# Altium footprint library LPON_CAP.PcbLib: 108 footprints (part 3 of 7)
Each footprint in its own frame and in the unit in brackets; x right, y up, seen from the top. Pads: shape width x height; smd on the part's side, far side on the other; paste and mask are expansions set on the pad; w line width, h text height; cw(c..) or ccw(c..) is an arc to the next point about the centre after c.
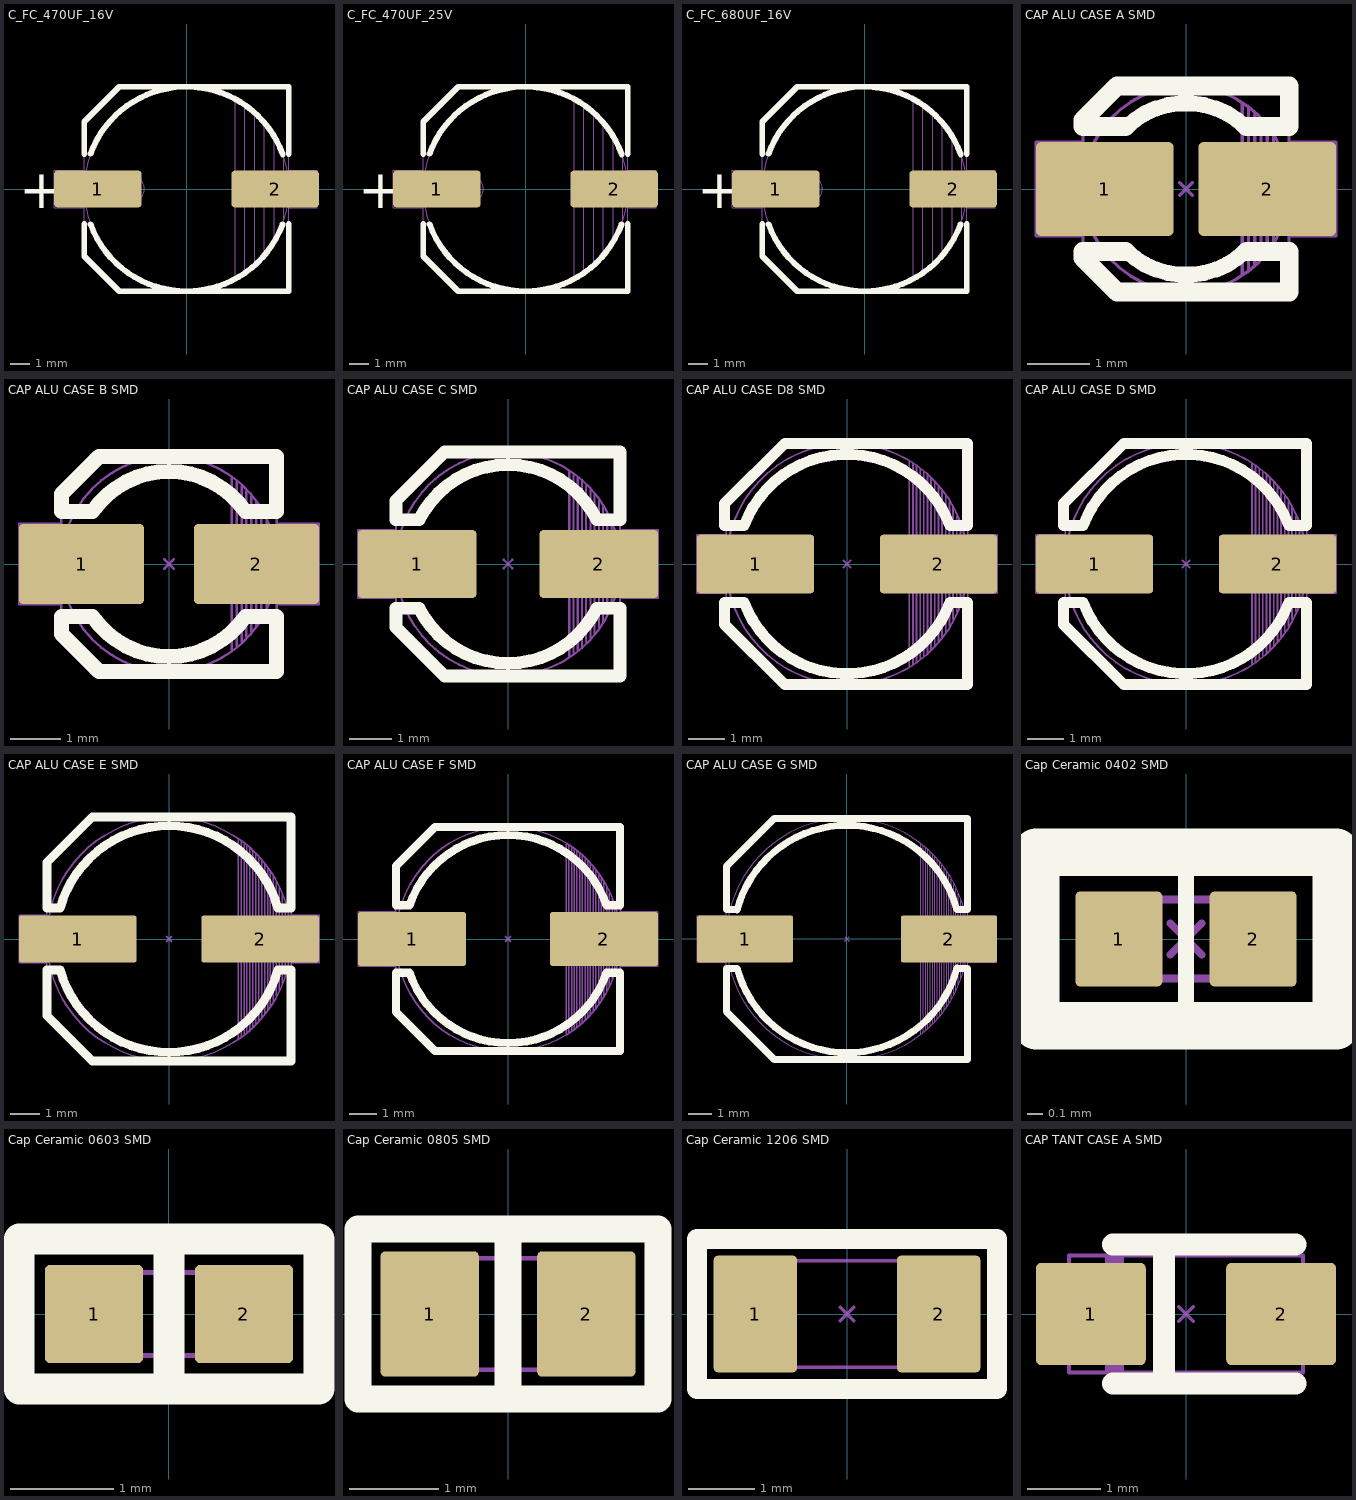
[diagram p2: the footprints below, top view; thin cyan lines are the x and y axes]

## C_FC_470UF_16V [mm] "ALUMINUM CAPACITOR 10.5x10.5x10.5mm"
height 10.5
pads (2):
  rrect20% 4.5x1.9 smd mask+0.1: 1(-4.55,0) 2(4.55,0)
Top Overlay:
  lines w0.3: -5.25,-1.8 -5.25,-3.45 -3.45,-5.25 5.25,-5.25 5.25,-1.8 ; -5.25,1.8 -5.25,3.45 -3.45,5.25 5.25,5.25 5.25,1.8 ; -4.928,-1.81 ccw(c0,0) 4.928,-1.81 ; -4.928,1.81 cw(c0,0) 4.94,1.778
  text "+" at -8.6,-1 h2
Mechanical 1:
  circle w0.05: c-2.84,0 r0.671
  circle w0.05: c0,0 r5.25
  lines w0.05: -5.25,-0.95 -6.8,-0.95 -6.8,0.95 -5.25,0.95 ; 2.5,-4.6 2.5,4.6 ; 3,-4.3 3,4.3 ; 3.5,-3.9 3.5,3.9 ; 4,-3.4 4,3.4 ; 4.5,-2.7 4.5,2.7 ; 5,-1.6 5,1.6 ; 5.25,-0.95 6.7,-0.95 6.7,0.95 5.25,0.95 ; -5.25,-3.45 -3.45,-5.25 5.25,-5.25 5.25,5.25 -3.45,5.25 -5.25,3.45 -5.25,-3.45
  text "+" at -3.5,-1 h2
3D body "User Library-cap_10x10x10-1.STEP": height 10.5, standoff 0, extent -5.901,-5.25 5.899,5.25

## C_FC_470UF_25V [mm] "ALUMINUM CAPACITOR 10.5x10.5x10.5mm"
height 10.5
pads (2):
  rrect20% 4.5x1.9 smd mask+0.1: 1(-4.55,0) 2(4.55,0)
Top Overlay:
  lines w0.3: -5.25,-1.8 -5.25,-3.45 -3.45,-5.25 5.25,-5.25 5.25,-1.8 ; -5.25,1.8 -5.25,3.45 -3.45,5.25 5.25,5.25 5.25,1.8 ; -4.928,-1.81 ccw(c0,0) 4.928,-1.81 ; -4.928,1.81 cw(c0,0) 4.94,1.778
  text "+" at -8.6,-1 h2
Mechanical 1:
  circle w0.05: c-2.84,0 r0.671
  circle w0.05: c0,0 r5.25
  lines w0.05: -5.25,-0.95 -6.8,-0.95 -6.8,0.95 -5.25,0.95 ; 2.5,-4.6 2.5,4.6 ; 3,-4.3 3,4.3 ; 3.5,-3.9 3.5,3.9 ; 4,-3.4 4,3.4 ; 4.5,-2.7 4.5,2.7 ; 5,-1.6 5,1.6 ; 5.25,-0.95 6.7,-0.95 6.7,0.95 5.25,0.95 ; -5.25,-3.45 -3.45,-5.25 5.25,-5.25 5.25,5.25 -3.45,5.25 -5.25,3.45 -5.25,-3.45
  text "+" at -3.5,-1 h2
3D body "User Library-cap_10x10x10-1.STEP": height 10.5, standoff 0, extent -5.901,-5.25 5.899,5.25

## C_FC_680UF_16V [mm] "ALUMINUM CAPACITOR 10.5x10.5x10.5mm"
height 10.5
pads (2):
  rrect20% 4.5x1.9 smd mask+0.1: 1(-4.55,0) 2(4.55,0)
Top Overlay:
  lines w0.3: -5.25,-1.8 -5.25,-3.45 -3.45,-5.25 5.25,-5.25 5.25,-1.8 ; -5.25,1.8 -5.25,3.45 -3.45,5.25 5.25,5.25 5.25,1.8 ; -4.928,-1.81 ccw(c0,0) 4.928,-1.81 ; -4.928,1.81 cw(c0,0) 4.94,1.778
  text "+" at -8.6,-1 h2
Mechanical 1:
  circle w0.05: c-2.84,0 r0.671
  circle w0.05: c0,0 r5.25
  lines w0.05: -5.25,-0.95 -6.8,-0.95 -6.8,0.95 -5.25,0.95 ; 2.5,-4.6 2.5,4.6 ; 3,-4.3 3,4.3 ; 3.5,-3.9 3.5,3.9 ; 4,-3.4 4,3.4 ; 4.5,-2.7 4.5,2.7 ; 5,-1.6 5,1.6 ; 5.25,-0.95 6.7,-0.95 6.7,0.95 5.25,0.95 ; -5.25,-3.45 -3.45,-5.25 5.25,-5.25 5.25,5.25 -3.45,5.25 -5.25,3.45 -5.25,-3.45
  text "+" at -3.5,-1 h2
3D body "User Library-cap_10x10x10-1.STEP": height 10.5, standoff 0, extent -5.901,-5.25 5.899,5.25

## CAP ALU CASE A SMD [mm]
pads (2):
  rrect10% 2.2x1.5 smd mask+0.1: 1(-1.3,0) 2(1.3,0)
Top Overlay:
  lines w0.254: -0.966,-0.977 ccw(c0,0) 0.967,-0.977 ; -0.967,0.977 cw(c0,0) 0.966,0.977
  lines w0.3: -0.966,-1 -1.65,-1 -1.65,-1.1 -1.1,-1.65 1.65,-1.65 1.65,-1 0.967,-1 ; -0.966,1 -1.65,1 -1.65,1.1 -1.1,1.65 1.65,1.65 1.65,1 0.967,1
Mechanical 2:
  circle w0.05: c0,0 r1.65
  lines w0.05: -1.65,-0.75 -2.4,-0.75 -2.4,0.75 -1.65,0.75 ; -0.1,-0.1 0.1,0.1 ; -0.1,0.1 0.1,-0.1 ; 0.9,-1.35 0.9,1.35 ; 1,-1.3 1,1.3 ; 1.1,-1.2 1.1,1.2 ; 1.2,-1.1 1.2,1.1 ; 1.3,-1 1.3,1 ; 1.4,-0.85 1.4,0.85 ; 1.5,-0.65 1.5,0.65 ; 1.65,-0.75 2.4,-0.75 2.4,0.75 1.65,0.75 ; -1.65,-1.11 -1.11,-1.65 1.65,-1.65 1.65,1.65 -1.09,1.65 -1.65,1.09 -1.65,-1.11
3D body "User Library-ALU-A.STEP": height 5.4, standoff 0, extent -1.8,-1.65 1.8,1.65

## CAP ALU CASE B SMD [mm]
pads (2):
  rrect10% 2.5x1.6 smd mask+0.1: 1(-1.75,0) 2(1.75,0)
Top Overlay:
  lines w0.3: -1.525,-1.052 ccw(c0,0) 1.525,-1.052 ; -1.525,-1.05 -2.15,-1.05 -2.15,-1.4 -1.4,-2.15 2.15,-2.15 2.15,-1.05 1.525,-1.05 ; -1.525,1.05 -2.15,1.05 -2.15,1.4 -1.4,2.15 2.15,2.15 2.15,1.05 1.525,1.05 ; -1.525,1.052 cw(c0,0) 1.525,1.052
Mechanical 2:
  circle w0.05: c0,0 r2.152
  lines w0.05: -2.15,-0.8 -3,-0.8 -3,0.8 -2.15,0.8 ; -0.1,-0.1 0.1,0.1 ; -0.1,0.1 0.1,-0.1 ; 1.25,-1.75 1.25,1.75 ; 1.35,-1.65 1.35,1.65 ; 1.45,-1.55 1.45,1.55 ; 1.55,-1.45 1.55,1.45 ; 1.65,-1.35 1.65,1.35 ; 1.75,-1.25 1.75,1.25 ; 1.85,-1.1 1.85,1.1 ; 1.95,-0.85 1.95,0.9 ; 2.05,-0.6 2.05,0.6 ; 2.15,-0.8 3,-0.8 3,0.8 2.15,0.8 ; -2.15,-1.4 -1.4,-2.15 2.15,-2.15 2.15,2.15 -1.4,2.15 -2.15,1.4 -2.15,-1.4
3D body "User Library-ALU-B.STEP": height 5.4, standoff 0, extent -2.3,-2.15 2.3,2.15

## CAP ALU CASE C SMD [mm]
pads (2):
  rrect10% 2.8x1.6 smd mask+0.1: 1(-2.15,0) 2(2.15,0)
Top Overlay:
  lines w0.3: -2.65,-1.5 -1.5,-2.65 2.65,-2.65 2.65,-1.05 2.103,-1.05 2.102,-1.051 cw(c0,0) -2.102,-1.051 -2.103,-1.05 -2.65,-1.05 -2.65,-1.5 ; -2.65,1.05 -2.103,1.05 -2.102,1.051 cw(c0,0) 2.102,1.051 2.103,1.05 2.65,1.05 2.65,2.65 -1.5,2.65 -2.65,1.5 -2.65,1.05
Mechanical 2:
  circle w0.05: c0,0 r2.65
  lines w0.05: -2.65,-0.8 -3.55,-0.8 -3.55,0.8 -2.65,0.8 ; -0.1,-0.1 0.1,0.1 ; -0.1,0.1 0.1,-0.1 ; 1.45,-2.2 1.45,2.2 ; 1.55,-2.1 1.55,2.1 ; 1.65,-2.05 1.65,2.05 ; 1.75,-1.95 1.75,1.95 ; 1.85,-1.85 1.85,1.85 ; 1.95,-1.75 1.95,1.75 ; 2.05,-1.65 2.05,1.65 ; 2.15,-1.55 2.15,1.55 ; 2.25,-1.4 2.25,1.35 ; 2.35,-1.2 2.35,1.2 ; 2.45,-0.95 2.45,0.95 ; 2.55,-0.65 2.55,0.65 ; 2.65,-0.8 3.55,-0.8 3.55,0.8 2.65,0.8 ; -2.65,-1.5 -2.65,1.51 -1.51,2.65 2.65,2.65 2.65,-2.65 -1.5,-2.65 -2.65,-1.5
3D body "User Library-ALU-C.STEP": height 5.41, standoff 0, extent -2.95,-2.65 2.95,2.65

## CAP ALU CASE D8 SMD [mm]
pads (2):
  rrect10% 3.2x1.6 smd mask+0.1: 1(-2.5,0) 2(2.5,0)
Top Overlay:
  lines w0.3: -2.81,-1.05 -3.35,-1.05 -3.35,-1.65 -1.7,-3.3 3.3,-3.3 3.3,-1.05 2.81,-1.05 cw(c0,0) -2.81,-1.049 ; -3.35,1.05 -3.35,1.65 -1.7,3.3 3.3,3.3 3.3,1.049 2.81,1.049 ccw(c0,0) -2.81,1.05 -3.35,1.05
Mechanical 2:
  circle w0.05: c0,0 r3.3
  lines w0.05: -3.3,-0.8 -4.1,-0.8 -4.1,0.8 -3.3,0.8 ; -0.1,-0.1 0.1,0.1 ; -0.1,0.1 0.1,-0.1 ; 1.7,-2.8 1.7,2.8 ; 1.8,-2.75 1.8,2.75 ; 1.9,-2.7 1.9,2.7 ; 2,-2.6 2,2.6 ; 2.1,-2.5 2.1,2.5 ; 2.2,-2.45 2.2,2.45 ; 2.3,-2.35 2.3,2.35 ; 2.4,-2.25 2.4,2.25 ; 2.5,-2.15 2.5,2.15 ; 2.6,-2 2.6,2 ; 2.7,-1.85 2.7,1.85 ; 2.8,-1.7 2.8,1.7 ; 2.9,-1.5 2.9,1.55 ; 3,-1.3 3,1.3 ; 3.1,-1.05 3.1,1.05 ; 3.2,-0.7 3.2,0.75 ; 3.3,0.8 4.1,0.8 4.1,-0.8 ; 4.1,-0.8 3.3,-0.8 4.1,-0.8 ; -3.3,-1.7 -1.7,-3.3 3.3,-3.3 3.3,3.3 -1.7,3.3 -3.3,1.7 -3.3,-1.7
3D body "User Library-ALU-D8.STEP": height 7.7, standoff 0, extent -3.5,-3.3 3.5,3.3

## CAP ALU CASE D SMD [mm]
pads (2):
  rrect10% 3.2x1.6 smd mask+0.1: 1(-2.5,0) 2(2.5,0)
Top Overlay:
  lines w0.3: -2.81,-1.05 -3.35,-1.05 -3.35,-1.65 -1.7,-3.3 3.3,-3.3 3.3,-1.05 2.81,-1.05 cw(c0,0) -2.81,-1.049 ; -2.81,1.049 cw(c0,-0.001) 2.81,1.048 3.3,1.049 3.3,3.3 -1.7,3.3 -3.35,1.65 -3.35,1.05 -2.81,1.05
Mechanical 2:
  circle w0.05: c0,0 r3.3
  lines w0.05: -3.3,-0.8 -4.1,-0.8 -4.1,0.8 -3.3,0.8 ; -0.1,-0.1 0.1,0.1 ; -0.1,0.1 0.1,-0.1 ; 1.8,-2.75 1.8,2.75 ; 1.9,-2.7 1.9,2.7 ; 2,-2.6 2,2.6 ; 2.1,-2.5 2.1,2.5 ; 2.2,-2.45 2.2,2.45 ; 2.3,-2.35 2.3,2.35 ; 2.4,-2.25 2.4,2.25 ; 2.5,-2.15 2.5,2.15 ; 2.6,-2 2.6,2 ; 2.7,-1.85 2.7,1.85 ; 2.8,-1.7 2.8,1.7 ; 2.9,-1.5 2.9,1.55 ; 3,-1.3 3,1.3 ; 3.1,-1.05 3.1,1.05 ; 3.2,-0.7 3.2,0.75 ; 3.3,0.8 4.1,0.8 4.1,-0.8 ; 4.1,-0.8 3.3,-0.8 4.1,-0.8 ; -3.3,-1.7 -1.7,-3.3 3.3,-3.3 3.3,3.3 -1.7,3.3 -3.3,1.7 -3.3,-1.7
3D body "User Library-ALU-D.STEP": height 5.4, standoff 0, extent -3.5,-3.3 3.5,3.3

## CAP ALU CASE E SMD [mm]
pads (2):
  rrect10% 4x1.6 smd mask+0.1: 1(-3.1,0) 2(3.1,0)
Top Overlay:
  lines w0.3: -3.705,1.05 -4.15,1.05 -4.15,2.6 -2.6,4.15 4.15,4.15 4.15,1.05 3.706,1.05 ; -3.703,1.052 cw(c0,0) 3.704,1.051 ; -4.15,-2.6 -4.15,-1.05 -3.705,-1.05 -3.704,-1.051 ccw(c0,0) 3.703,-1.052 3.706,-1.05 4.15,-1.05 4.15,-4.15 -2.6,-4.15 -4.15,-2.6
Mechanical 2:
  circle w0.05: c0,0 r4.15
  lines w0.05: -4.15,-0.8 -5.1,-0.8 -5.1,0.8 -4.15,0.8 ; -0.1,-0.1 0.1,0.1 ; -0.1,0.1 0.1,-0.1 ; 2.35,-3.4 2.35,3.4 ; 2.45,-3.35 2.45,3.35 ; 2.55,-3.25 2.55,3.25 ; 2.65,-3.15 2.65,3.15 ; 2.75,-3.1 2.75,3.1 ; 2.85,-3 2.85,3 ; 2.95,-2.9 2.95,2.9 ; 3.05,-2.8 3.05,2.8 ; 3.15,-2.7 3.15,2.7 ; 3.25,-2.55 3.25,2.55 ; 3.35,-2.45 3.35,2.45 ; 3.45,-2.3 3.45,2.3 ; 3.55,-2.1 3.55,2.1 ; 3.65,-1.95 3.65,1.95 ; 3.75,-1.75 3.75,1.75 ; 3.85,-1.5 3.85,1.5 ; 3.95,-1.2 3.95,1.2 ; 4.05,-0.85 4.05,0.85 ; 4.15,-0.8 5.1,-0.8 5.1,0.8 4.15,0.8 ; -4.15,-2.6 -4.15,2.6 -2.6,4.15 4.15,4.15 4.15,-4.15 -2.6,-4.15 -4.15,-2.6
3D body "User Library-ALU-E.STEP": height 6.2, standoff 0, extent -4.5,-4.15 4.5,4.15

## CAP ALU CASE F SMD [mm]
pads (2):
  rrect10% 4x2 smd mask+0.1: 1(-3.55,0) 2(3.55,0)
Top Overlay:
  lines w0.3: -3.645,-1.25 -4.15,-1.25 -4.15,-2.7 -2.7,-4.15 4.15,-4.15 4.15,-1.25 3.645,-1.25 ; -3.645,1.25 -4.15,1.25 -4.15,2.7 -2.7,4.15 4.15,4.15 4.15,1.25 3.645,1.25 ; -3.642,-1.247 ccw(c0,0) 3.642,-1.247 ; -3.642,1.247 cw(c0,0) 3.642,1.247
Mechanical 2:
  circle w0.05: c0,0 r4.15
  lines w0.05: -4.15,-1 -5.55,-1 -5.55,1 -4.15,1 ; -0.1,-0.1 0.1,0.1 ; -0.1,0.1 0.1,-0.1 ; 2.15,-3.5 2.15,3.55 ; 2.25,-3.45 2.25,3.45 ; 2.35,-3.4 2.35,3.4 ; 2.45,-3.35 2.45,3.35 ; 2.55,-3.25 2.55,3.25 ; 2.65,-3.15 2.65,3.15 ; 2.75,-3.1 2.75,3.1 ; 2.85,-3 2.85,3 ; 2.95,-2.9 2.95,2.9 ; 3.05,-2.8 3.05,2.8 ; 3.15,-2.65 3.15,2.65 ; 3.25,-2.55 3.25,2.55 ; 3.35,-2.4 3.35,2.4 ; 3.45,-2.25 3.45,2.25 ; 3.55,-2.1 3.55,2.1 ; 3.65,-1.95 3.65,1.95 ; 3.75,-1.75 3.75,1.7 ; 3.85,-1.5 3.85,1.5 ; 3.95,-1.2 3.95,1.2 ; 4.05,-0.8 4.05,0.85 ; 4.15,-1 5.55,-1 5.55,1 4.15,1 ; -4.15,-2.7 -2.7,-4.15 4.15,-4.15 4.15,4.15 -2.7,4.15 -4.15,2.7 -4.15,-2.7
3D body "User Library-ALU-F.STEP": height 10.2, standoff 0, extent -4.95,-4.15 4.95,4.15

## CAP ALU CASE G SMD [mm]
pads (2):
  rrect10% 4.1x2 smd mask+0.1: 1(-4.35,0) 2(4.35,0)
Top Overlay:
  lines w0.3: -4.688,-1.25 -5.15,-1.25 -5.15,-3.1 -3.1,-5.15 5.15,-5.15 5.15,-1.25 4.688,-1.25 ; -4.688,1.25 -5.15,1.25 -5.15,3.1 -3.1,5.15 5.15,5.15 5.15,1.25 4.688,1.25 ; -4.687,1.248 cw(c0,0) 4.685,1.252 ; -4.685,-1.252 ccw(c0,0) 4.687,-1.248
Mechanical 2:
  circle w0.05: c0,0 r5.15
  lines w0.05: -5.15,-1 -6.4,-1 -6.4,1 -5.15,1 ; -0.1,-0.1 0.1,0.1 ; -0.1,0.1 0.1,-0.1 ; 3.15,-4.05 3.15,4.05 ; 3.25,-3.95 3.25,3.95 ; 3.35,-3.9 3.35,3.9 ; 3.45,-3.8 3.45,3.8 ; 3.55,-3.7 3.55,3.7 ; 3.65,-3.6 3.65,3.6 ; 3.75,-3.5 3.75,3.5 ; 3.85,-3.4 3.85,3.4 ; 3.95,-3.3 3.95,3.3 ; 4.05,-3.15 4.05,3.15 ; 4.15,-3.05 4.15,3.05 ; 4.25,-2.9 4.25,2.9 ; 4.35,-2.7 4.35,2.75 ; 4.45,-2.55 4.45,2.55 ; 4.55,-2.4 4.55,2.35 ; 4.65,-2.2 4.65,2.15 ; 4.75,-1.95 4.75,1.95 ; 4.85,-1.7 4.85,1.65 ; 4.95,-1.35 4.95,1.35 ; 5.05,-0.9 5.05,0.85 ; 5.15,-1 6.4,-1 6.4,1 5.15,1 ; -5.15,-3.1 -3.1,-5.15 5.15,-5.15 5.15,5.15 -3.1,5.15 -5.15,3.1 -5.15,-3.1
3D body "User Library-ALU-G.STEP": height 10.2, standoff 0, extent -5.8,-5.15 5.8,5.15

## Cap Ceramic 0402 SMD [mm] "Reflow Soldering"
pads (2):
  rrect10% 0.55x0.6 smd mask+0.1: 1(-0.425,0) 2(0.425,0)
Top Overlay:
  lines w0.1: 0,-0.55 0,0.55
  lines w0.3: -0.95,-0.55 0.95,-0.55 0.95,0.55 -0.95,0.55 -0.95,-0.55
Mechanical 2:
  lines w0.05: -0.1,-0.1 0.1,0.1 ; -0.1,0.1 0.1,-0.1 ; -0.5,-0.25 0.5,-0.25 0.5,0.25 -0.5,0.25 -0.5,-0.25
3D body "User Library-SMD CAPACITOR0402.STEP": height 0.5, standoff 0, extent -0.5,-0.25 0.5,0.25

## Cap Ceramic 0603 SMD [mm] "Reflow Soldering"
pads (2):
  rrect10% 0.95x0.95 smd mask+0.1: 1(-0.725,0) 2(0.725,0)
Top Overlay:
  lines w0.3: -1.45,0.725 -1.45,-0.725 1.435,-0.725 ; -1.435,0.725 1.435,0.725 ; 0,-0.725 0,0.725 ; 1.45,-0.725 1.45,0.725
Mechanical 2:
  lines w0.05: -0.1,-0.1 0.1,0.1 ; -0.1,0.1 0.1,-0.1 ; -0.8,-0.4 0.8,-0.4 0.8,0.4 -0.8,0.4 -0.8,-0.4
3D body "User Library-SMD CAPACITOR0603.STEP": height 0.85, standoff 0.05, extent -0.8,-0.4 0.8,0.4

## Cap Ceramic 0805 SMD [mm] "Reflow Soldering"
pads (2):
  rrect10% 1.1x1.4 smd mask+0.1: 1(-0.875,0) 2(0.875,0)
Top Overlay:
  lines w0.3: 0,-0.95 0,0.95 ; -1.675,-0.95 -1.675,0.95 1.675,0.95 1.675,-0.95 -1.675,-0.95
Mechanical 2:
  lines w0.05: -0.1,-0.1 0.1,0.1 ; -0.1,0.1 0.1,-0.1 ; -1,-0.625 1,-0.625 1,0.625 -1,0.625 -1,-0.625
3D body "User Library-SMD CAPACITOR0805.STEP": height 0.65, standoff 0.05, extent -1,-0.625 1,0.625

## Cap Ceramic 1206 SMD [mm] "Reflow Soldering"
pads (2):
  rrect10% 1.25x1.75 smd mask+0.1: 1(-1.375,0) 2(1.375,0)
Top Overlay:
  lines w0.3: -2.25,-1.125 2.25,-1.125 2.25,1.125 -2.25,1.125 -2.25,-1.125
Mechanical 2:
  lines w0.05: -0.1,-0.1 0.1,0.1 ; -0.1,0.1 0.1,-0.1 ; -1.6,-0.8 -1.6,0.8 1.6,0.8 1.6,-0.8 -1.6,-0.8
3D body "User Library-SMD CAPACITOR1206.STEP": height 0.79, standoff 0.01, extent -1.6,-0.8 1.6,0.8

## CAP TANT CASE A SMD [mm] "32x16mm"
height 1.8
pads (2):
  rrect10% 1.5x1.4 smd mask+0.1: 1(-1.3,0) 2(1.3,0)
Top Overlay:
  lines w0.3: -1,-0.95 1.5,-0.95 ; -1,0.95 1.5,0.95 ; -0.3,-0.93 -0.3,0.95
Mechanical 2:
  rectangle: -1.11,-0.8 -0.85,0.8
  lines w0.05: -0.1,-0.1 0.1,0.1 ; -0.1,0.1 0.1,-0.1 ; -1.6,-0.8 1.6,-0.8 1.6,0.8 -1.6,0.8 -1.6,-0.8
3D body "User Library-CaseA_3216-18.STEP": height 1.65, standoff 0.05, extent -1.6,-0.8 1.6,0.8